# Altium schematic symbol library 1206J0630104MXT.SchLib: 2 symbols
Pins are listed as number, name and electrical type; pins without a type are passive.

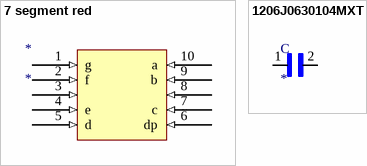
[diagram p0: symbols 7 segment red to 1206J0630104MXT]

## 7 segment red
designator *
footprint 7 segment
pins: 1 g (in), 2 f (in), 3 (in), 4 e (in), 5 d (in), 6 dp (in), 7 c (in), 8 (in), 9 b (in), 10 a (in)

## 1206J0630104MXT
designator C
0.1ÂµF Â±20% 63V Ceramic Capacitor X7R (2R1) 1206 (3216 Metric); MP: 1206J0630104MXT; MF: Knowles Syfer; SnapEDA_Link: https://www.snapeda.com/parts/1206J0630104MXT/Knowles%20Syfer/view-part/4314687/?ref=snap; DigiKey-Purchase-URL: https://snapeda.com/shop?store=DigiKey&id=4314687; Mouser-Purchase-URL: https://snapeda.com/shop?store=Mouser&id=4314687; Value: *; Digi-Key_Part_Number: 1608-1392-1-ND; Package: 3216 Knowles Syfer
footprint CAPC3216X160N
pins: 1, 2